# EAGLE library part TEXAS_OPT3001 (library airu-board)
The OPT3001 is a single-chip lux meter, measuring the intensity of light as visible by the human eye.
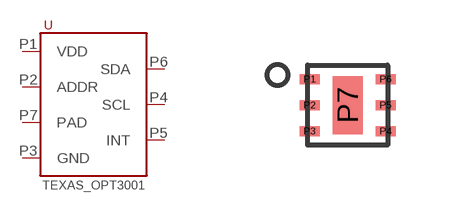
[diagram p10: symbol with the pads of TEXAS_USON; footprint TEXAS_USON]

Designator prefix -

## TEXAS_OPT3001  [TEXAS_USON]
P1  VDD  pwr
P2  ADDR
P3  GND  pwr
P4  SCL
P5  INT
P6  SDA
P7  PAD  pwr

## Footprint TEXAS_USON (pad centres in mm)
smd 0.5 x 0.25: P1 -0.95,0.65; P2 -0.95,0; P3 -0.95,-0.65; P4 0.95,-0.65; P5 0.95,0; P6 0.95,0.65
smd 0.75 x 1.45: P7 0,0